# Altium footprint library main_PcbLib.PcbLib: 30 footprints (part 2 of 2)
Each footprint in its own frame and in the unit in brackets; x right, y up, seen from the top. Pads: shape width x height; smd on the part's side, far side on the other; paste and mask are expansions set on the pad; w line width, h text height; cw(c..) or ccw(c..) is an arc to the next point about the centre after c.
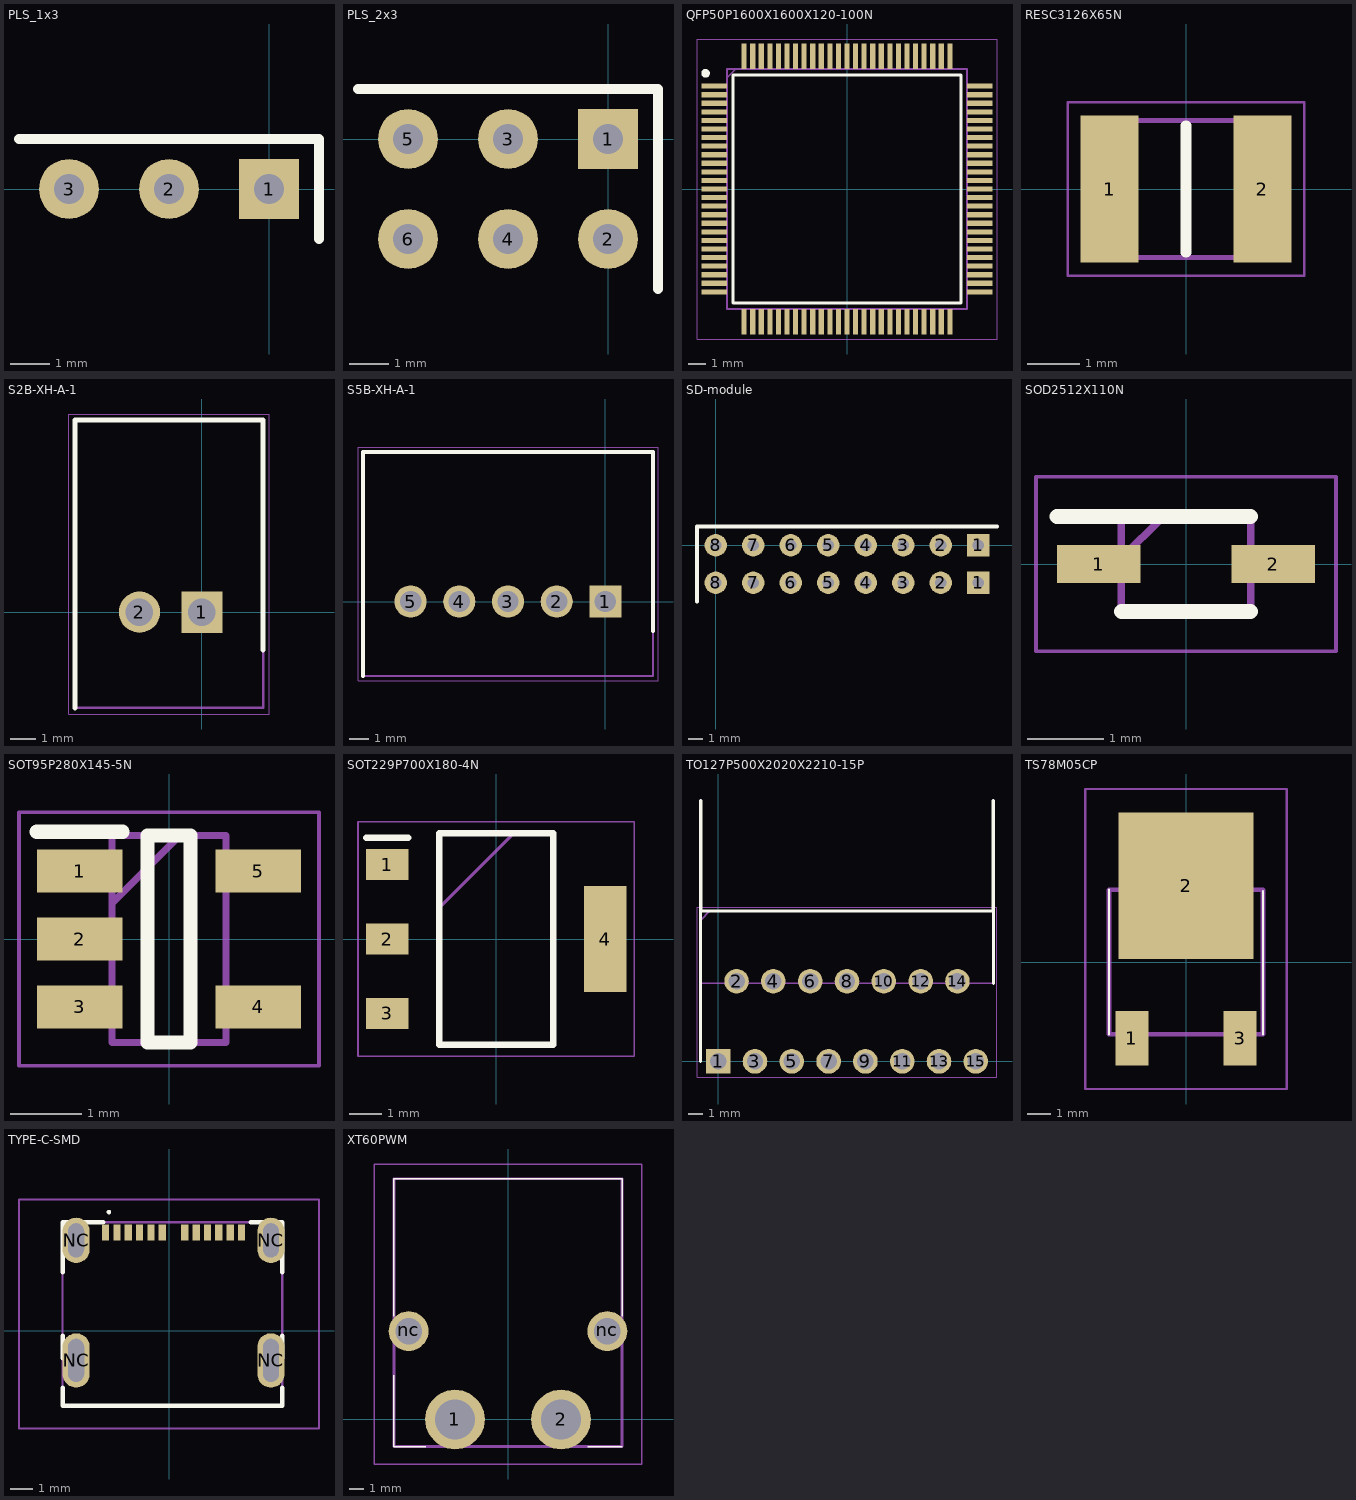
[diagram p1: the footprints below, top view; thin cyan lines are the x and y axes]

## PLS_1x3 [mil]
pads (3):
  rect 60x60 hole 30: 1(0,0)
  round 60 hole 30: 2(-100,0) 3(-200,0)
Top Overlay:
  lines w10: -250,50 50,50 50,-50
3D body "PLS-1.stp": height 338.58, standoff -118.11, extent -50,-50 50,50
3D body "PLS-1.stp": height 338.58, standoff -118.11, extent -150,-50 -50,50
3D body "PLS-1.stp": height 338.58, standoff -118.11, extent -250,-50 -150,50

## PLS_2x3 [mil]
pads (6):
  rect 60x60 hole 30: 1(0,0)
  round 60 hole 30: 2(0,-100) 3(-100,0) 4(-100,-100) 5(-200,0) 6(-200,-100)
Top Overlay:
  lines w10: -250,50 50,50 50,-150
3D body "PLS-1.stp": height 338.58, standoff -118.11, extent -250,-150 -150,-50
3D body "PLS-1.stp": height 338.58, standoff -118.11, extent -150,-150 -50,-50
3D body "PLS-1.stp": height 338.58, standoff -118.11, extent -50,-150 50,-50
3D body "PLS-1.stp": height 338.58, standoff -118.11, extent -250,-50 -150,50
3D body "PLS-1.stp": height 338.58, standoff -118.11, extent -150,-50 -50,50
3D body "PLS-1.stp": height 338.58, standoff -118.11, extent -50,-50 50,50

## QFP50P1600X1600X120-100N [mm]
pads (100):
  rect 1.5x0.3 smd: 1(-7.75,6) 2(-7.75,5.5) 3(-7.75,5) 4(-7.75,4.5) 5(-7.75,4) 6(-7.75,3.5) 7(-7.75,3) 8(-7.75,2.5) 9(-7.75,2) 10(-7.75,1.5) 11(-7.75,1) 12(-7.75,0.5) 13(-7.75,0) 14(-7.75,-0.5) 15(-7.75,-1) 16(-7.75,-1.5) 17(-7.75,-2) 18(-7.75,-2.5) 19(-7.75,-3) 20(-7.75,-3.5) 21(-7.75,-4) 22(-7.75,-4.5) 23(-7.75,-5) 24(-7.75,-5.5) 25(-7.75,-6) 51(7.75,-6) 52(7.75,-5.5) 53(7.75,-5) 54(7.75,-4.5) 55(7.75,-4) 56(7.75,-3.5) 57(7.75,-3) 58(7.75,-2.5) 59(7.75,-2) 60(7.75,-1.5) 61(7.75,-1) 62(7.75,-0.5) 63(7.75,0) 64(7.75,0.5) 65(7.75,1) 66(7.75,1.5) 67(7.75,2) 68(7.75,2.5) 69(7.75,3) 70(7.75,3.5) 71(7.75,4) 72(7.75,4.5) 73(7.75,5) 74(7.75,5.5) 75(7.75,6)
  rect 0.3x1.5 smd: 26(-6,-7.75) 27(-5.5,-7.75) 28(-5,-7.75) 29(-4.5,-7.75) 30(-4,-7.75) 31(-3.5,-7.75) 32(-3,-7.75) 33(-2.5,-7.75) 34(-2,-7.75) 35(-1.5,-7.75) 36(-1,-7.75) 37(-0.5,-7.75) 38(0,-7.75) 39(0.5,-7.75) 40(1,-7.75) 41(1.5,-7.75) 42(2,-7.75) 43(2.5,-7.75) 44(3,-7.75) 45(3.5,-7.75) 46(4,-7.75) 47(4.5,-7.75) 48(5,-7.75) 49(5.5,-7.75) 50(6,-7.75) 76(6,7.75) 77(5.5,7.75) 78(5,7.75) 79(4.5,7.75) 80(4,7.75) 81(3.5,7.75) 82(3,7.75) 83(2.5,7.75) 84(2,7.75) 85(1.5,7.75) 86(1,7.75) 87(0.5,7.75) 88(0,7.75) 89(-0.5,7.75) 90(-1,7.75) 91(-1.5,7.75) 92(-2,7.75) 93(-2.5,7.75) 94(-3,7.75) 95(-3.5,7.75) 96(-4,7.75) 97(-4.5,7.75) 98(-5,7.75) 99(-5.5,7.75) 100(-6,7.75)
Top Overlay:
  circle w0.25: c-8.25,6.75 r0.125
  lines w0.2: -6.65,-6.65 6.65,-6.65 6.65,6.65 -6.65,6.65 -6.65,-6.65
Mechanical 13:
  lines w0.1: -7,6.5 -6.5,7 ; -7,-7 7,-7 7,7 -7,7 -7,-7
Mechanical 15:
  lines w0.05: -8.75,-8.75 8.75,-8.75 8.75,8.75 -8.75,8.75 -8.75,-8.75
3D body "ATMEGA2560-16AU.stp": height 1.2, standoff 0, extent -8,-8 8,8

## RESC3126X65N [mm]
pads (2):
  rect 1.1x2.8 smd: 1(-1.45,0) 2(1.45,0)
Top Overlay:
  lines w0.2: 0,-1.2 0,1.2
Mechanical 13:
  lines w0.1: -1.55,-1.3 1.55,-1.3 1.55,1.3 -1.55,1.3 -1.55,-1.3
Mechanical 15:
  lines w0.05: -2.25,-1.65 2.25,-1.65 2.25,1.65 -2.25,1.65 -2.25,-1.65
3D body "MP000277.stp": height 0.65, standoff 0, extent -1.55,-1.3 1.55,1.3

## S2B-XH-A-1 [mm]
pads (2):
  rect 1.65x1.65 hole 1.1: 1(0,0)
  round 1.65 hole 1.1: 2(-2.5,0)
Top Overlay:
  lines w0.2: -5.084,-3.824 -5.084,-0.949 -5.084,4.801 -5.084,7.676 ; -5.08,7.676 2.45,7.676 2.45,-1.524
Mechanical 13:
  lines w0.1: -5.08,-3.824 2.45,-3.824 2.45,7.676 -5.08,7.676 -5.08,-3.824
Mechanical 15:
  lines w0.05: -5.334,-4.074 2.7,-4.074 2.7,7.926 -5.334,7.926 -5.334,-4.074
3D body "S2B-XH-A-1.step": height 5.75, standoff -3.5, extent -4.95,-3.9 2.45,7.6

## S5B-XH-A-1 [mm]
pads (5):
  rect 1.65x1.65 hole 1.1: 1(0,0)
  round 1.65 hole 1.1: 2(-2.5,0) 3(-5,0) 4(-7.5,0) 5(-10,0)
Top Overlay:
  lines w0.2: -12.45,-3.824 -12.45,7.676 2.45,7.676 2.45,-1.524
Mechanical 13:
  lines w0.1: -12.45,-3.824 2.45,-3.824 2.45,7.676 -12.45,7.676 -12.45,-3.824
Mechanical 15:
  lines w0.05: -12.7,-4.074 2.7,-4.074 2.7,7.926 -12.7,7.926 -12.7,-4.074
3D body "S5B-XH-A-1.step": height 5.75, standoff -3.5, extent -12.45,-3.9 2.45,7.6

## SD-module [mil]
pads (16):
  rect 60x60 hole 30: 1(700,-100) 1(700,0)
  round 60 hole 30: 2(600,-100) 2(600,0) 3(500,-100) 3(500,0) 4(400,-100) 4(400,0) 5(300,-100) 5(300,0) 6(200,-100) 6(200,0) 7(100,-100) 7(100,0) 8(0,-100) 8(0,0)
Top Overlay:
  lines w10: -50,-150 -50,50 750,50
3D body "PBS-1.step": height 334.65, standoff -118.11, extent -50,-150 50,-50
3D body "PBS-1.step": height 334.65, standoff -118.11, extent 50,-150 150,-50
3D body "PBS-1.step": height 334.65, standoff -118.11, extent 150,-150 250,-50
3D body "PBS-1.step": height 334.65, standoff -118.11, extent 250,-150 350,-50
3D body "PBS-1.step": height 334.65, standoff -118.11, extent 350,-150 450,-50
3D body "PBS-1.step": height 334.65, standoff -118.11, extent 450,-150 550,-50
3D body "PBS-1.step": height 334.65, standoff -118.11, extent 550,-150 650,-50
3D body "PBS-1.step": height 334.65, standoff -118.11, extent 650,-150 750,-50
3D body "PBS-1.step": height 334.65, standoff -118.11, extent -50,-50 50,50
3D body "PBS-1.step": height 334.65, standoff -118.11, extent 50,-50 150,50
3D body "PBS-1.step": height 334.65, standoff -118.11, extent 150,-50 250,50
3D body "PBS-1.step": height 334.65, standoff -118.11, extent 250,-50 350,50
3D body "PBS-1.step": height 334.65, standoff -118.11, extent 650,-50 750,50
3D body "PBS-1.step": height 334.65, standoff -118.11, extent 550,-50 650,50
3D body "PBS-1.step": height 334.65, standoff -118.11, extent 450,-50 550,50
3D body "PBS-1.step": height 334.65, standoff -118.11, extent 350,-50 450,50
3D body "SD Card Module - 1.stp": height 455.7, standoff 283.46, extent -242.5,-195 932.5,1837

## SOD2512X110N [mm]
pads (2):
  rect 1.1x0.5 smd: 1(-1.15,0) 2(1.15,0)
Top Overlay:
  lines w0.2: -1.7,0.625 0.85,0.625 ; -0.85,-0.625 0.85,-0.625
Mechanical 13:
  lines w0.1: -0.85,0.075 -0.3,0.625 ; -0.85,-0.625 -0.85,0.625 0.85,0.625 0.85,-0.625 -0.85,-0.625
Mechanical 15:
  lines w0.05: -1.975,-1.15 -1.975,1.15 1.975,1.15 1.975,-1.15 -1.975,-1.15
3D body "BZX384-C5V1.stp": height 0.93, standoff 0, extent -1.244,-0.623 1.245,0.627

## SOT95P280X145-5N [mm]
pads (5):
  rect 1.2x0.6 smd: 1(-1.25,0.95) 2(-1.25,0) 3(-1.25,-0.95) 4(1.25,-0.95) 5(1.25,0.95)
Top Overlay:
  lines w0.2: -1.85,1.5 -0.65,1.5 ; -0.3,-1.45 -0.3,1.45 0.3,1.45 0.3,-1.45 -0.3,-1.45
Mechanical 13:
  lines w0.1: -0.8,0.5 0.15,1.45 ; -0.8,-1.45 -0.8,1.45 0.8,1.45 0.8,-1.45 -0.8,-1.45
Mechanical 15:
  lines w0.05: -2.1,-1.775 -2.1,1.775 2.1,1.775 2.1,-1.775 -2.1,-1.775
3D body "TPS62203DBVR.stp": height 1.45, standoff 0, extent -1.4,-1.45 1.4,1.45

## SOT229P700X180-4N [mm]
pads (4):
  rect 1.3x0.95 smd: 1(-3.35,2.29) 2(-3.35,0) 3(-3.35,-2.29)
  rect 1.3x3.25 smd: 4(3.35,0)
Top Overlay:
  lines w0.2: -4,3.115 -2.7,3.115 ; -1.752,-3.252 -1.752,3.252 1.752,3.252 1.752,-3.252 -1.752,-3.252
Mechanical 13:
  lines w0.1: -1.752,0.962 0.538,3.252 ; -1.752,-3.252 -1.752,3.252 1.752,3.252 1.752,-3.252 -1.752,-3.252
Mechanical 15:
  lines w0.05: -4.25,-3.605 -4.25,3.605 4.25,3.605 4.25,-3.605 -4.25,-3.605
3D body "AMS1117-1.5.stp": height 1.8, standoff 0, extent -3.5,-3.253 3.5,3.253

## TO127P500X2020X2210-15P [mm]
pads (15):
  rect 1.695x1.695 hole 1.13: 1(0,0)
  round 1.695 hole 1.13: 2(1.27,5.53) 3(2.54,0) 4(3.81,5.53) 5(5.08,0) 6(6.35,5.53) 7(7.62,0) 8(8.89,5.53) 9(10.16,0) 10(11.43,5.53) 11(12.7,0) 12(13.97,5.53) 13(15.24,0) 14(16.51,5.53) 15(17.78,0)
Top Overlay:
  lines w0.2: -1.21,0 -1.21,10.38 18.99,10.38 18.99,5.38
  lines w0.254: -1.21,10.38 -1.21,17.99 ; 18.99,10.38 18.99,17.99
Mechanical 13:
  lines w0.1: -1.21,9.745 -0.575,10.38 ; -1.21,5.38 -1.21,10.38 18.99,10.38 18.99,5.38 -1.21,5.38
Mechanical 15:
  lines w0.05: -1.46,-1.098 -1.46,10.63 19.24,10.63 19.24,-1.098 -1.46,-1.098
3D body "L298N.stp": height 21.35, standoff -3.75, extent -0.91,0.218 18.69,9.31

## TS78M05CP [mm]
pads (3):
  rect 1.4x2.29 smd: 1(-2.285,-3.217) 3(2.285,-3.217)
  rect 5.69x6.18 smd: 2(0,3.217)
Top Overlay:
  lines w0.1: -3.25,-3.05 -3.25,3.05 ; 3.25,-3.05 3.25,3
Mechanical 13:
  lines w0.2: -3.25,-3.05 -3.25,3.05 3.25,3.05 3.25,-3.05 -3.25,-3.05
Mechanical 15:
  lines w0.1: -4.25,-5.363 -4.25,7.308 4.25,7.308 4.25,-5.363 -4.25,-5.363
3D body "TS78M05CP.stp": height 2.38, standoff 0, extent -3.25,-3.98 3.25,5.92

## TYPE-C-SMD [mm]
pads (16):
  rect 0.32x0.7 smd: 1(-2.8,4.35) 1(3.2,4.35) 4(-1.3,4.35) 4(1.7,4.35) NC(-2.3,4.35) NC(-1.8,4.35) NC(-0.8,4.35) NC(-0.3,4.35) NC(0.7,4.35) NC(1.2,4.35) NC(2.2,4.35) NC(2.7,4.35)
  oval 1.2x2.4 hole 0.7 slot 1.9 at 90 deg: NC(-4.1,-1.3) NC(4.5,-1.3)
  oval 1.2x2 hole 0.7 slot 1.5 at 90 deg: NC(-4.1,4) NC(4.5,4)
Top Overlay:
  lines w0.1: -2.65,5.2 ccw(c-2.65,5.25) -2.65,5.3 ccw(c-2.65,5.25) -2.65,5.2
  lines w0.2: -4.7,-2.5 -4.7,-3.3 5,-3.3 5,-2.5 ; -4.7,-1.2 -4.7,-0.2 ; -4.7,2.6 -4.7,4.8 -2.9,4.8 ; 3.6,4.8 5,4.8 5,2.6 ; 5,-1.2 5,-0.2
Mechanical 13:
  lines w0.1: -4.7,-3.3 5,-3.3 5,4.8 -4.7,4.8 -4.7,-3.3
Mechanical 15:
  lines w0.1: -6.622,-4.3 6.622,-4.3 6.622,5.8 -6.622,5.8 -6.622,-4.3
3D body "105450-0101.stp": height 3.18, standoff -0.78, extent -4.27,-3.2 4.67,4.7

## XT60PWM [mm]
pads (4):
  round 4.05 hole 2.7: 1(-3.6,0) 2(3.6,0)
  round 2.7 hole 1.8: nc(-6.75,6) nc(6.75,6)
Top Overlay:
  lines w0.1: -7.75,3 -7.75,-1.85 -5.6,-1.85 ; -7.75,7 -7.75,16.35 7.75,16.35 7.75,7 ; 5.4,-1.85 7.75,-1.85
Mechanical 13:
  lines w0.2: -7.75,-1.85 7.75,-1.85 7.75,16.35 -7.75,16.35 -7.75,-1.85
Mechanical 15:
  lines w0.1: -9.1,-3.025 9.1,-3.025 9.1,17.35 -9.1,17.35 -9.1,-3.025
3D body "XT60PW-M.stp": height 8.44, standoff -2.51, extent -7.95,-1.98 7.95,16.298